# Altium integrated library Intrefaces.IntLib: 9 symbols
Pins are listed as number, name and electrical type; pins without a type are passive.

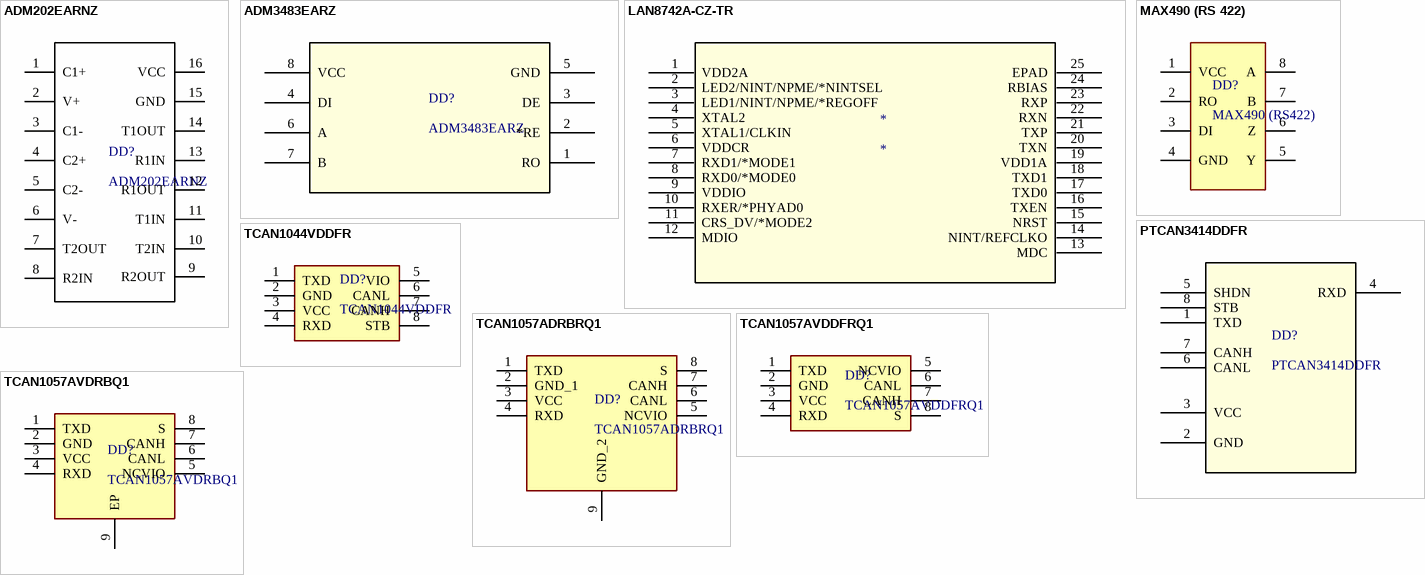
[diagram p0: symbols ADM202EARNZ to TCAN1057AVDRBQ1]

## ADM202EARNZ
designator DD?
footprint ADM202EARNZ
pins: 1 C1+, 2 V+, 3 C1-, 4 C2+, 5 C2-, 6 V-, 7 T2OUT, 8 R2IN, 9 R2OUT, 10 T2IN, 11 T1IN, 12 R1OUT, 13 R1IN, 14 T1OUT, 15 GND, 16 VCC

## ADM3483EARZ
designator DD?
footprint ADM3483EARZ
pins: 1 RO, 2 *RE, 3 DE, 4 DI, 5 GND, 6 A, 7 B, 8 VCC

## LAN8742A-CZ-TR
designator *
footprint LAN8742A-CZ-TR
pins: 1 VDD2A, 2 LED2/NINT/NPME/*NINTSEL, 3 LED1/NINT/NPME/*REGOFF, 4 XTAL2, 5 XTAL1/CLKIN, 6 VDDCR, 7 RXD1/*MODE1, 8 RXD0/*MODE0, 9 VDDIO, 10 RXER/*PHYAD0, 11 CRS_DV/*MODE2, 12 MDIO, 13 MDC, 14 NINT/REFCLKO, 15 NRST, 16 TXEN, 17 TXD0, 18 TXD1, 19 VDD1A, 20 TXN, 21 TXP, 22 RXN, 23 RXP, 24 RBIAS, 25 EPAD

## MAX490 (RS 422)
designator DD?, comment MAX490 (RS422)
footprint MAX490
pins: 1 VCC, 2 RO, 3 DI, 4 GND, 5 Y, 6 Z, 7 B, 8 A

## PTCAN3414DDFR
designator DD?
footprint PTCAN3414DDFR
pins: 1 TXD, 2 GND (power), 3 VCC (power), 4 RXD, 5 SHDN, 6 CANL, 7 CANH, 8 STB

## TCAN1044VDDFR
designator DD?
footprint TCAN1044VDDFR
pins: 1 TXD, 2 GND, 3 VCC, 4 RXD, 5 VIO, 6 CANL, 7 CANH, 8 STB

## TCAN1057ADRBRQ1
designator DD?
footprint TCAN1057ADRBRQ1
pins: 1 TXD, 2 GND_1, 3 VCC, 4 RXD, 5 NCVIO, 6 CANL, 7 CANH, 8 S, 9 GND_2

## TCAN1057AVDDFRQ1
designator DD?
footprint TCAN1057AVDDFRQ1
pins: 1 TXD, 2 GND, 3 VCC, 4 RXD, 5 NCVIO, 6 CANL, 7 CANH, 8 S

## TCAN1057AVDRBQ1
designator DD?
footprint TCAN1057AVDRBQ1
pins: 1 TXD, 2 GND, 3 VCC, 4 RXD, 5 NCVIO, 6 CANL, 7 CANH, 8 S, 9 EP